# Altium footprint library Converter_Module_PT100_V2l1.PcbLib: 17 footprints (part 1 of 2)
Each footprint in its own frame and in the unit in brackets; x right, y up, seen from the top. Pads: shape width x height; smd on the part's side, far side on the other; paste and mask are expansions set on the pad; w line width, h text height; cw(c..) or ccw(c..) is an arc to the next point about the centre after c.
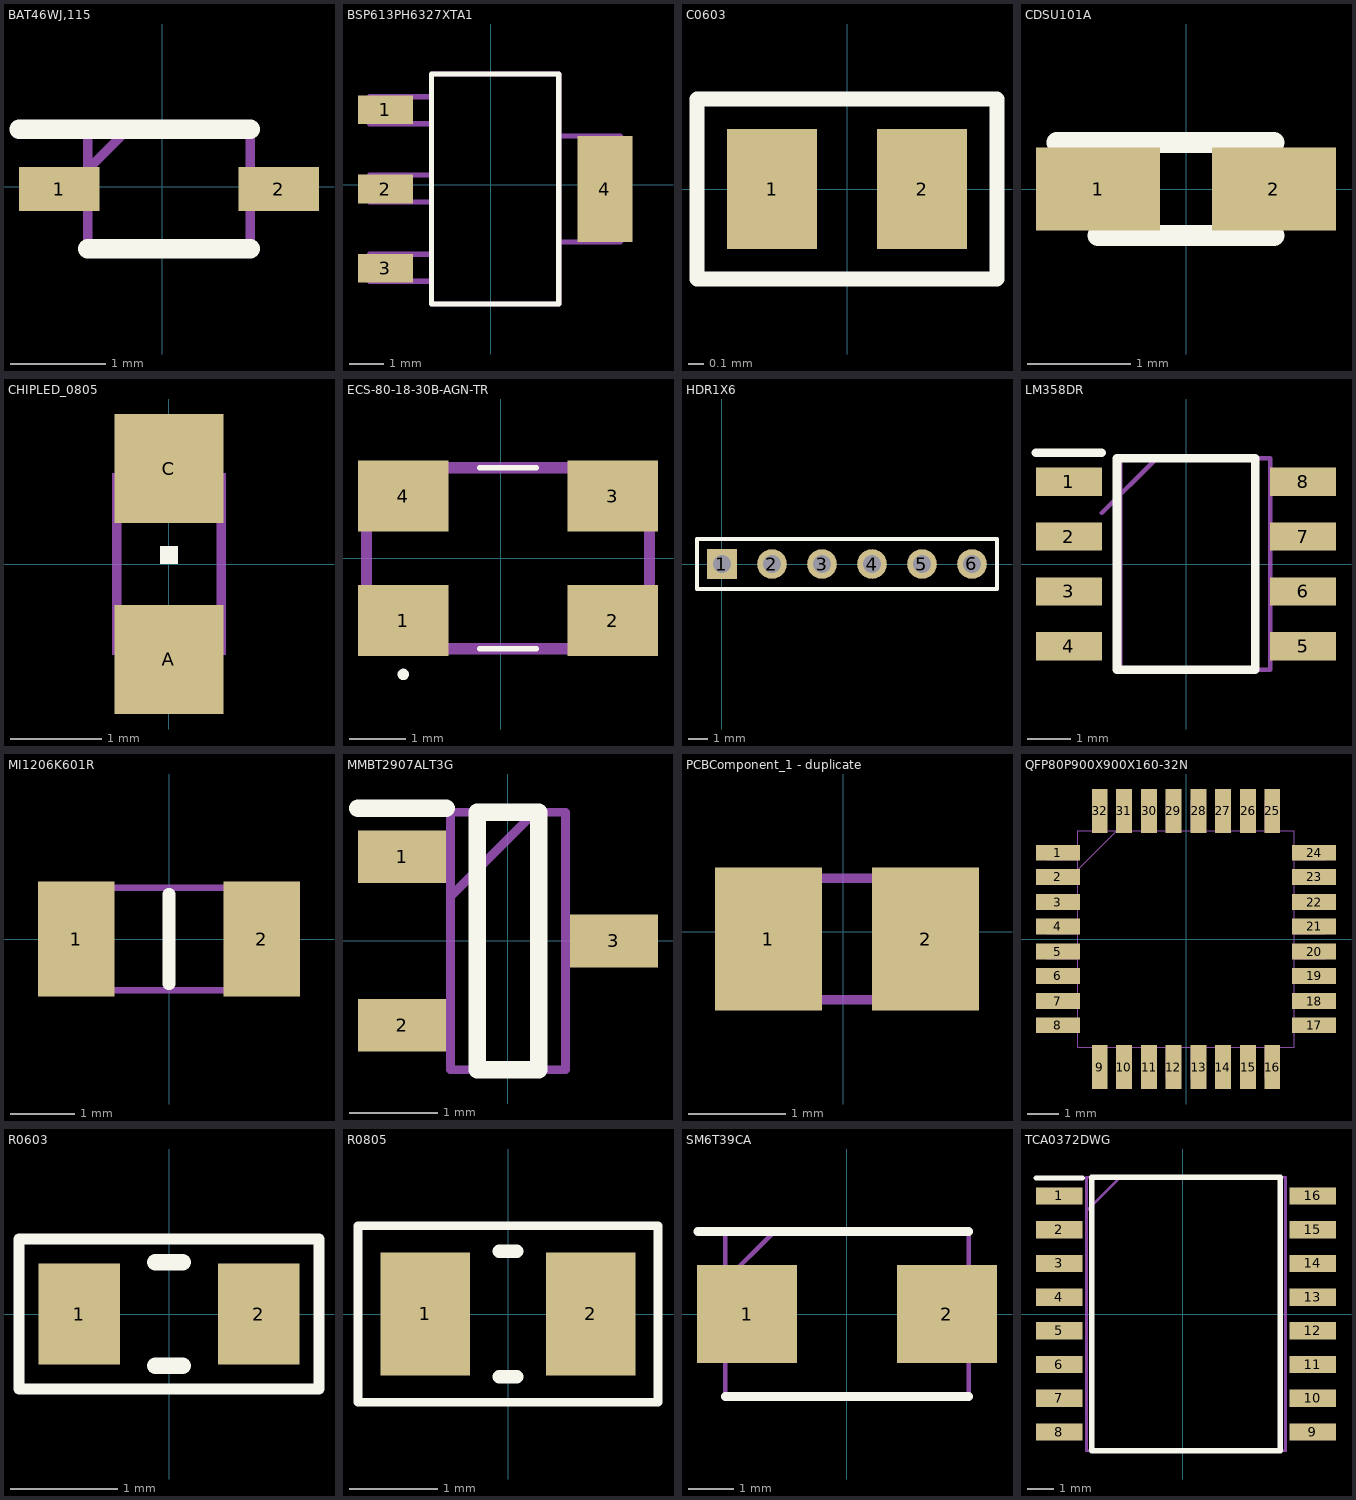
[diagram p0: the footprints below, top view; thin cyan lines are the x and y axes]

## BAT46WJ,115 [mm] "Schottky Diodes & Rectifiers Schottky Diodes 100V 250mA Single"
pads (2):
  rect 0.84x0.46 smd: 1(-1.08,-0.023) 2(1.22,-0.023)
Top Overlay:
  lines w0.2: -1.5,0.602 0.92,0.602 ; -0.78,-0.648 0.92,-0.648
Mechanical 15:
  lines w0.1: -0.78,0.182 -0.36,0.602 ; -0.78,-0.648 0.92,-0.648 0.92,0.602 -0.78,0.602 -0.78,-0.648

## BSP613PH6327XTA1 [mil]
pads (4):
  rect 63x33 smd: 1(-121,86) 2(-121,-5) 3(-121,-96)
  rect 63x122 smd: 4(131,-5)
Top Overlay:
  lines w6: -68,-137 78,-137 78,127 -68,127 -68,-137
Mechanical 4:
  lines w6: -139,-111 -139,-80 ; -139,-111 -68,-111 ; -139,-111 -139,-80 ; -139,-111 -68,-111 ; -139,-80 -68,-80 ; -139,-80 -68,-80 ; -139,-20 -139,11 ; -139,-20 -68,-20 ; -139,-20 -139,11 ; -139,-20 -68,-20 ; -139,11 -68,11 ; -139,11 -68,11 ; -139,70 -139,101 ; -139,70 -68,70 ; -139,70 -139,101 ; -139,70 -68,70 ; -139,101 -68,101 ; -139,101 -68,101 ; -68,-137 78,-137 ; -68,-137 -68,127 ; -68,-137 78,-137 ; -68,-137 -68,127 ; -68,-111 -68,-80 ; -68,-111 -68,-80 ; -68,-20 -68,11 ; -68,-20 -68,11 ; -68,70 -68,101 ; -68,70 -68,101 ; -68,127 78,127 ; -68,127 78,127 ; 78,-137 78,127 ; 78,-137 78,127 ; 78,-66 78,56 ; 78,-66 149,-66 ; 78,-66 78,56 ; 78,-66 149,-66 ; 78,56 149,56 ; 78,56 149,56 ; 149,-66 149,56 ; 149,-66 149,56

## C0603 [mm]
pads (2):
  rect 0.6x0.8 smd: 1(-0.5,0) 2(0.5,0)
Top Overlay:
  lines w0.1: -1,-0.6 1,-0.6 1,0.6 -1,0.6 -1,-0.6
3D body: height 0.8, standoff 0, extent -0.5,-0.4 0.5,0.4
3D body: height 0.8, standoff 0, extent -0.7,-0.4 -0.5,0.4
3D body: height 0.8, standoff 0, extent 0.5,-0.4 0.7,0.4

## CDSU101A [mm] "Diodes - General Purpose, Power, Switching 100mA 80V Sm Sgnl Switching"
pads (2):
  rect 1.2x0.8 smd: 1(-0.85,0) 2(0.85,0)
Top Overlay:
  lines w0.2: -1.25,0.45 0.85,0.45 ; -0.85,-0.45 0.85,-0.45
Mechanical 15:
  lines w0.1: -0.85,0.05 -0.45,0.45 ; -0.85,-0.45 0.85,-0.45 0.85,0.45 -0.85,0.45 -0.85,-0.45

## CHIPLED_0805 [mil]
pads (2):
  rect 47.24x47.24 smd: A(0,-41.34) C(0,41.34)
Top Overlay:
  rectangle: -3.94,0 3.94,7.87
Mechanical 16:
  circle w4: c-17.72,33.46 r4.06
  rectangle: 11.81,19.69 24.61,39.37
  rectangle: -12.8,19.69 -6.89,29.53
  rectangle: 6.89,19.69 12.8,29.53
  rectangle: -7.87,19.69 7.87,26.57
  rectangle: 11.81,-39.37 24.61,-19.69
  rectangle: -24.61,-39.37 -11.81,-19.69
  rectangle: 6.89,-29.53 12.8,-19.69
  rectangle: -12.8,-29.53 -6.89,-19.69
  rectangle: -7.87,-26.57 7.87,-19.69
  rectangle: -23.62,19.69 -11.81,31.5
  rectangle: -24.61,36.42 -15.75,39.37
  lines w4: -22.64,-19.69 -22.64,36.42 ; -13.78,-39.37 cw(c0,-39.37) 13.78,-39.37 ; -13.78,39.37 ccw(c0,39.37) 13.78,39.37 ; 22.64,-20.67 22.64,20.67

## ECS-80-18-30B-AGN-TR [mm] "8Mhz Crystal"
pads (4):
  rect 1.6x1.25 smd: 1(-1.723,-1.1) 2(1.977,-1.1) 3(1.977,1.1) 4(-1.723,1.1)
Top Overlay:
  lines w0.1: -0.373,-1.6 0.627,-1.6 ; -0.373,1.6 0.627,1.6 ; -1.723,-2.1 cw(c-1.723,-2.05) -1.723,-2 cw(c-1.723,-2.05) -1.723,-2.1
Mechanical 15:
  lines w0.2: -2.373,-1.6 2.627,-1.6 2.627,1.6 -2.373,1.6 -2.373,-1.6

## HDR1X6 [mm] "Connector; Header; 6 Position"
pads (6):
  rect 1.5x1.5 hole 0.9: 1(0,0)
  round 1.5 hole 0.9: 2(2.54,0) 3(5.08,0) 4(7.62,0) 5(10.16,0) 6(12.7,0)
Top Overlay:
  lines w0.2: -1.27,-1.27 -1.27,1.27 13.97,1.27 13.97,-1.27 -1.27,-1.27

## LM358DR [mm]
pads (8):
  rect 1.525x0.65 smd: 1(-2.712,1.905) 2(-2.712,0.635) 3(-2.712,-0.635) 4(-2.712,-1.905) 5(2.712,-1.905) 6(2.712,-0.635) 7(2.712,0.635) 8(2.712,1.905)
Top Overlay:
  lines w0.2: -3.475,2.58 -1.95,2.58 ; -1.6,-2.45 1.6,-2.45 1.6,2.45 -1.6,2.45 -1.6,-2.45
Mechanical 15:
  lines w0.1: -1.95,1.18 -0.68,2.45 ; -1.524,-2.45 1.95,-2.45 1.95,2.45 -1.524,2.45 -1.524,-2.45
3D body: height 0, standoff 0, extent 1.397,-2.032 2.54,-1.651
3D body: height 0, standoff 0, extent 1.397,-0.762 2.54,-0.381
3D body: height 0, standoff 0, extent 1.397,0.508 2.54,0.889
3D body: height 0, standoff 0, extent 1.397,1.778 2.54,2.159
3D body: height 0, standoff 0, extent -2.54,-2.032 -1.397,-1.651
3D body: height 0, standoff 0, extent -2.54,-0.762 -1.397,-0.381
3D body: height 0, standoff 0, extent -2.54,0.508 -1.397,0.889
3D body: height 0, standoff 0, extent -2.54,1.778 -1.397,2.159
3D body: height 0, standoff 0, extent -1.524,-2.476 1.498,2.349

## MI1206K601R [mm] "Ferrite Beads 600ohms 100MHz 1.5A Monolithic 1206 SMD"
pads (2):
  rect 1.2x1.8 smd: 1(-1.45,0) 2(1.45,0)
Top Overlay:
  lines w0.2: 0,-0.7 0,0.7
Mechanical 15:
  lines w0.1: -1.6,-0.8 -1.6,0.8 1.6,0.8 1.6,-0.8 -1.6,-0.8

## MMBT2907ALT3G [mm]
pads (3):
  rect 1x0.6 smd: 1(-1.2,0.955) 2(-1.2,-0.955) 3(1.2,0)
Top Overlay:
  lines w0.2: -1.7,1.505 -0.7,1.505 ; -0.35,-1.46 -0.35,1.46 0.35,1.46 0.35,-1.46 -0.35,-1.46
Mechanical 15:
  lines w0.1: -0.65,0.505 0.305,1.46 ; -0.65,-1.46 -0.65,1.46 0.65,1.46 0.65,-1.46 -0.65,-1.46

## PCBComponent_1 - duplicate [mm]
pads (2):
  rect 1.1x1.47 smd: 1(-0.769,-0.073) 2(0.851,-0.073)
Mechanical 15:
  lines w0.1: -0.959,-0.698 -0.959,0.552 1.041,0.552 1.041,-0.698 -0.959,-0.698
3D body: height 0.5, standoff 0, extent -0.85,-0.8 0.85,0.6
3D body: height 0.5, standoff 0, extent -1.2,-0.8 -0.85,0.6
3D body: height 0.5, standoff 0, extent 0.85,-0.8 1.2,0.6

## QFP80P900X900X160-32N [mil]
pads (32):
  rect 56x20 smd: 1(-163,110) 2(-163,79) 3(-163,47) 4(-163,16) 5(-163,-16) 6(-163,-47) 7(-163,-79) 8(-163,-110) 17(163,-110) 18(163,-79) 19(163,-47) 20(163,-16) 21(163,16) 22(163,47) 23(163,79) 24(163,110)
  rect 20x56 smd: 9(-110,-163) 10(-79,-163) 11(-47,-163) 12(-16,-163) 13(16,-163) 14(47,-163) 15(79,-163) 16(110,-163) 25(110,163) 26(79,163) 27(47,163) 28(16,163) 29(-16,163) 30(-47,163) 31(-79,163) 32(-110,163)
Mechanical 1:
  lines w0: -138,88 -138,70 -177,70 -177,88 -138,88 ; -138,88 -88,138 ; -88,138 -70,138 -70,177 -88,177 -88,138 ; -177,-119 -177,-101 -138,-101 -138,-119 -177,-119 ; -177,-88 -177,-70 -138,-70 -138,-88 -177,-88 ; -177,-56 -177,-38 -138,-38 -138,-56 -177,-56 ; -177,-25 -177,-7 -138,-7 -138,-25 -177,-25 ; -177,7 -177,25 -138,25 -138,7 -177,7 ; -177,38 -177,56 -138,56 -138,38 -177,38 ; -177,101 -177,119 -138,119 -138,101 -177,101 ; -138,-138 138,-138 138,138 -138,138 -138,-138 ; -119,-177 -119,-138 -101,-138 -101,-177 -119,-177 ; -119,138 -101,138 -101,177 -119,177 -119,138 ; -88,-177 -88,-138 -70,-138 -70,-177 -88,-177 ; -56,-177 -56,-138 -38,-138 -38,-177 -56,-177 ; -56,138 -38,138 -38,177 -56,177 -56,138 ; -25,-177 -25,-138 -7,-138 -7,-177 -25,-177 ; -25,138 -7,138 -7,177 -25,177 -25,138 ; 7,-177 7,-138 25,-138 25,-177 7,-177 ; 7,138 25,138 25,177 7,177 7,138 ; 38,-177 38,-138 56,-138 56,-177 38,-177 ; 38,138 56,138 56,177 38,177 38,138 ; 70,-177 70,-138 88,-138 88,-177 70,-177 ; 70,138 88,138 88,177 70,177 70,138 ; 101,-177 101,-138 119,-138 119,-177 101,-177 ; 101,138 119,138 119,177 101,177 101,138 ; 138,-119 138,-101 177,-101 177,-119 138,-119 ; 138,-88 138,-70 177,-70 177,-88 138,-88 ; 138,-56 138,-38 177,-38 177,-56 138,-56 ; 138,-25 138,-7 177,-7 177,-25 138,-25 ; 138,7 138,25 177,25 177,7 138,7 ; 138,38 138,56 177,56 177,38 138,38 ; 138,70 138,88 177,88 177,70 138,70 ; 138,101 138,119 177,119 177,101 138,101

## R0603 [mil]
pads (2):
  rect 30x37 smd: 1(-33,0) 2(33,0)
Top Overlay:
  lines w3.94: -55.12,-27.56 55.12,-27.56 55.12,27.56 -55.12,27.56 -55.12,-27.56
  lines w6: -5,-19 5,-19 ; -5,19 5,19

## R0805 [mil]
pads (2):
  rect 40x55 smd: 1(-37,0) 2(37,0)
Top Overlay:
  lines w3.94: -66.93,-39.37 66.93,-39.37 66.93,39.37 -66.93,39.37 -66.93,-39.37
  lines w6: -4,-28 4,-28 ; -4,28 4,28

## SM6T39CA [mm] "ESD Suppressors / TVS Diodes 600W 39V Bidirect"
pads (2):
  rect 2.2x2.15 smd: 1(-2.2,0) 2(2.2,0)
Top Overlay:
  lines w0.2: -3.275,1.812 2.675,1.812 ; -2.675,-1.812 2.675,-1.812
Mechanical 15:
  lines w0.1: -2.675,0.738 -1.6,1.812 ; -2.675,-1.812 2.675,-1.812 2.675,1.812 -2.675,1.812 -2.675,-1.812

## TCA0372DWG [mm]
pads (16):
  rect 1.75x0.65 smd: 1(-4.648,4.445) 2(-4.648,3.175) 3(-4.648,1.905) 4(-4.648,0.635) 5(-4.648,-0.635) 6(-4.648,-1.905) 7(-4.648,-3.175) 8(-4.648,-4.445) 9(4.902,-4.445) 10(4.902,-3.175) 11(4.902,-1.905) 12(4.902,-0.635) 13(4.902,0.635) 14(4.902,1.905) 15(4.902,3.175) 16(4.902,4.445)
Top Overlay:
  lines w0.2: -5.523,5.12 -3.773,5.12 ; -3.423,-5.15 -3.423,5.15 3.677,5.15 3.677,-5.15 -3.423,-5.15
Mechanical 15:
  lines w0.1: -3.623,3.88 -2.353,5.15 ; -3.623,-5.15 -3.623,5.15 3.877,5.15 3.877,-5.15 -3.623,-5.15